# Altium footprint library 687 1xx 182 122.PcbLib: 13 footprints
Each footprint in its own frame and in the unit in brackets; x right, y up, seen from the top. Pads: shape width x height; smd on the part's side, far side on the other; paste and mask are expansions set on the pad; w line width, h text height; cw(c..) or ccw(c..) is an arc to the next point about the centre after c.
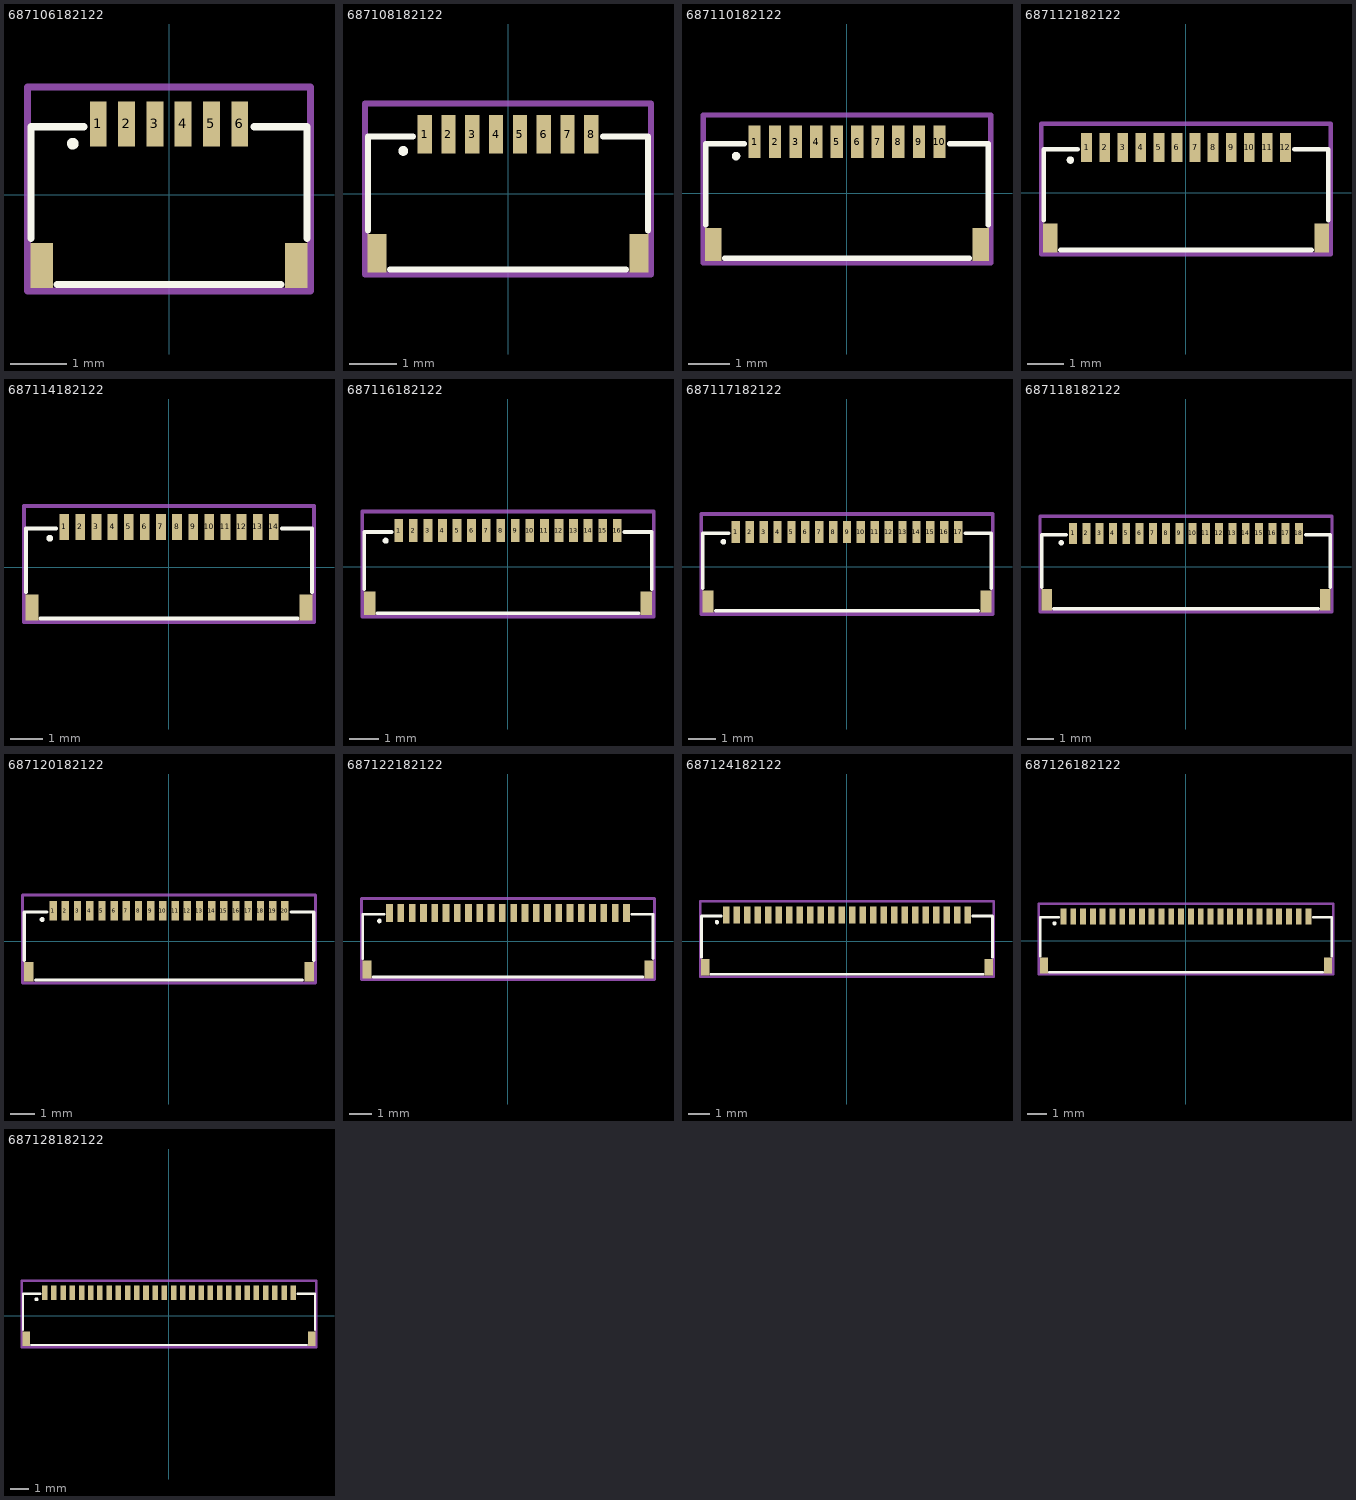
[diagram p0: the footprints below, top view; thin cyan lines are the x and y axes]

## 687106182122 [mm] "6 pins"
height 1.76
pads (8):
  rect 0.3x0.8 smd: 1(-1.25,1.25) 2(-0.75,1.25) 3(-0.25,1.25) 4(0.25,1.25) 5(0.75,1.25) 6(1.25,1.25)
  rect 0.4x0.8 smd: ""(-2.25,-1.25) ""(2.25,-1.25)
Top Overlay:
  circle w0.125: c-1.7,0.9 r0.04
  lines w0.127: -2.437,-0.77 -2.437,1.2 -1.5,1.2 ; -1.98,-1.586 1.98,-1.586 ; 1.5,1.2 2.437,1.2 2.437,-0.77
Mechanical 15:
  lines w0.127: -2.5,-1.7 -2.5,1.9 2.5,1.9 2.5,-1.7 -2.5,-1.7
3D body: height 0.98, standoff -0.01, extent -2.5,-1.65 2.5,1.95

## 687108182122 [mm] "8 pins"
height 1.76
pads (10):
  rect 0.3x0.8 smd: 1(-1.75,1.25) 2(-1.25,1.25) 3(-0.75,1.25) 4(-0.25,1.25) 5(0.25,1.25) 6(0.75,1.25) 7(1.25,1.25) 8(1.75,1.25)
  rect 0.4x0.8 smd: ""(-2.75,-1.25) ""(2.75,-1.25)
Top Overlay:
  circle w0.125: c-2.2,0.9 r0.04
  lines w0.127: -2.936,-0.77 -2.936,1.2 -2,1.2 ; -2.48,-1.586 2.48,-1.586 ; 2,1.2 2.936,1.2 2.936,-0.77
Mechanical 15:
  lines w0.127: -3,-1.7 3,-1.7 3,1.9 -3,1.9 -3,-1.7
3D body: height 0.98, standoff -0.01, extent -3,-1.65 3,1.85

## 687110182122 [mm] "10 pins"
height 1.76
pads (12):
  rect 0.3x0.8 smd: 1(-2.25,1.25) 2(-1.75,1.25) 3(-1.25,1.25) 4(-0.75,1.25) 5(-0.25,1.25) 6(0.25,1.25) 7(0.75,1.25) 8(1.25,1.25) 9(1.75,1.25) 10(2.25,1.25)
  rect 0.4x0.8 smd: ""(-3.25,-1.25) ""(3.25,-1.25)
Top Overlay:
  circle w0.125: c-2.7,0.9 r0.04
  lines w0.127: -3.436,-0.77 -3.436,1.2 -2.5,1.2 ; -2.98,-1.586 2.98,-1.586 ; 2.5,1.2 3.436,1.2 3.436,-0.77
Mechanical 15:
  lines w0.127: -3.5,-1.7 3.5,-1.7 3.5,1.9 -3.5,1.9 -3.5,-1.7
3D body: height 0.98, standoff -0.01, extent -3.5,-1.65 3.5,1.85

## 687112182122 [mm] "12 pins"
height 1.76
pads (14):
  rect 0.3x0.8 smd: 1(-2.75,1.25) 2(-2.25,1.25) 3(-1.75,1.25) 4(-1.25,1.25) 5(-0.75,1.25) 6(-0.25,1.25) 7(0.25,1.25) 8(0.75,1.25) 9(1.25,1.25) 10(1.75,1.25) 11(2.25,1.25) 12(2.75,1.25)
  rect 0.4x0.8 smd: ""(-3.75,-1.25) ""(3.75,-1.25)
Top Overlay:
  circle w0.125: c-3.2,0.9 r0.04
  lines w0.127: -3.936,-0.77 -3.936,1.2 -3,1.2 ; -3.48,-1.586 3.48,-1.586 ; 3,1.2 3.936,1.2 3.936,-0.77
Mechanical 15:
  lines w0.127: -4,-1.7 4,-1.7 4,1.9 -4,1.9 -4,-1.7
3D body: height 0.98, standoff -0.01, extent -4,-1.65 4,1.85

## 687114182122 [mm] "14 pins"
height 1.76
pads (16):
  rect 0.3x0.8 smd: 1(-3.25,1.25) 2(-2.75,1.25) 3(-2.25,1.25) 4(-1.75,1.25) 5(-1.25,1.25) 6(-0.75,1.25) 7(-0.25,1.25) 8(0.25,1.25) 9(0.75,1.25) 10(1.25,1.25) 11(1.75,1.25) 12(2.25,1.25) 13(2.75,1.25) 14(3.25,1.25)
  rect 0.4x0.8 smd: ""(-4.25,-1.25) ""(4.25,-1.25)
Top Overlay:
  circle w0.125: c-3.7,0.9 r0.04
  lines w0.127: -4.436,-0.77 -4.436,1.2 -3.5,1.2 ; -3.98,-1.586 3.98,-1.586 ; 3.5,1.2 4.436,1.2 4.436,-0.77
Mechanical 15:
  lines w0.127: -4.5,-1.7 -4.5,1.9 4.5,1.9 4.5,-1.7 -4.5,-1.7
3D body: height 0.98, standoff -0.01, extent -4.5,-1.65 4.5,1.85

## 687116182122 [mm] "16 pins"
height 1.76
pads (18):
  rect 0.3x0.8 smd: 1(-3.75,1.25) 2(-3.25,1.25) 3(-2.75,1.25) 4(-2.25,1.25) 5(-1.75,1.25) 6(-1.25,1.25) 7(-0.75,1.25) 8(-0.25,1.25) 9(0.25,1.25) 10(0.75,1.25) 11(1.25,1.25) 12(1.75,1.25) 13(2.25,1.25) 14(2.75,1.25) 15(3.25,1.25) 16(3.75,1.25)
  rect 0.4x0.8 smd: ""(-4.75,-1.25) ""(4.75,-1.25)
Top Overlay:
  circle w0.125: c-4.2,0.9 r0.04
  lines w0.127: -4.936,-0.77 -4.936,1.2 -4,1.2 ; -4.48,-1.586 4.48,-1.586 ; 4,1.2 4.936,1.2 4.936,-0.77
Mechanical 15:
  lines w0.127: -5,-1.7 -5,1.9 5,1.9 5,-1.7 -5,-1.7
3D body: height 0.98, standoff -0.01, extent -5,-1.65 5,1.85

## 687117182122 [mm] "17 pins"
height 1.76
pads (19):
  rect 0.3x0.8 smd: 1(-4,1.25) 2(-3.5,1.25) 3(-3,1.25) 4(-2.5,1.25) 5(-2,1.25) 6(-1.5,1.25) 7(-1,1.25) 8(-0.5,1.25) 9(0,1.25) 10(0.5,1.25) 11(1,1.25) 12(1.5,1.25) 13(2,1.25) 14(2.5,1.25) 15(3,1.25) 16(3.5,1.25) 17(4,1.25)
  rect 0.4x0.8 smd: ""(-5,-1.25) ""(5,-1.25)
Top Overlay:
  circle w0.125: c-4.45,0.9 r0.04
  lines w0.127: -5.186,-0.77 -5.186,1.2 -4.25,1.2 ; -4.73,-1.586 4.73,-1.586 ; 4.25,1.2 5.186,1.2 5.186,-0.77
Mechanical 15:
  lines w0.127: -5.25,-1.7 -5.25,1.9 5.25,1.9 5.25,-1.7 -5.25,-1.7
3D body: height 0.98, standoff -0.01, extent -5.25,-1.65 5.25,1.85

## 687118182122 [mm] "18 pins"
height 1.76
pads (20):
  rect 0.3x0.8 smd: 1(-4.25,1.25) 2(-3.75,1.25) 3(-3.25,1.25) 4(-2.75,1.25) 5(-2.25,1.25) 6(-1.75,1.25) 7(-1.25,1.25) 8(-0.75,1.25) 9(-0.25,1.25) 10(0.25,1.25) 11(0.75,1.25) 12(1.25,1.25) 13(1.75,1.25) 14(2.25,1.25) 15(2.75,1.25) 16(3.25,1.25) 17(3.75,1.25) 18(4.25,1.25)
  rect 0.4x0.8 smd: ""(-5.25,-1.25) ""(5.25,-1.25)
Top Overlay:
  circle w0.125: c-4.7,0.9 r0.04
  lines w0.127: -5.436,-0.77 -5.436,1.2 -4.5,1.2 ; -4.98,-1.586 4.98,-1.586 ; 4.5,1.2 5.436,1.2 5.436,-0.77
Mechanical 15:
  lines w0.127: -5.5,-1.7 -5.5,1.9 5.5,1.9 5.5,-1.7 -5.5,-1.7
3D body: height 0.98, standoff -0.01, extent -5.5,-1.65 5.5,1.85

## 687120182122 [mm] "20 pins"
height 1.76
pads (22):
  rect 0.3x0.8 smd: 1(-4.75,1.25) 2(-4.25,1.25) 3(-3.75,1.25) 4(-3.25,1.25) 5(-2.75,1.25) 6(-2.25,1.25) 7(-1.75,1.25) 8(-1.25,1.25) 9(-0.75,1.25) 10(-0.25,1.25) 11(0.25,1.25) 12(0.75,1.25) 13(1.25,1.25) 14(1.75,1.25) 15(2.25,1.25) 16(2.75,1.25) 17(3.25,1.25) 18(3.75,1.25) 19(4.25,1.25) 20(4.75,1.25)
  rect 0.4x0.8 smd: ""(-5.75,-1.25) ""(5.75,-1.25)
Top Overlay:
  circle w0.125: c-5.2,0.9 r0.04
  lines w0.127: -5.936,-0.77 -5.936,1.2 -5,1.2 ; -5.48,-1.586 5.48,-1.586 ; 5,1.2 5.936,1.2 5.936,-0.77
Mechanical 15:
  lines w0.127: -6,-1.7 6,-1.7 6,1.9 -6,1.9 -6,-1.7
3D body: height 0.98, standoff -0.01, extent -6,-1.65 6,1.85

## 687122182122 [mm] "22 pins"
height 1.76
pads (24):
  rect 0.3x0.8 smd: 1(-5.25,1.25) 2(-4.75,1.25) 3(-4.25,1.25) 4(-3.75,1.25) 5(-3.25,1.25) 6(-2.75,1.25) 7(-2.25,1.25) 8(-1.75,1.25) 9(-1.25,1.25) 10(-0.75,1.25) 11(-0.25,1.25) 12(0.25,1.25) 13(0.75,1.25) 14(1.25,1.25) 15(1.75,1.25) 16(2.25,1.25) 17(2.75,1.25) 18(3.25,1.25) 19(3.75,1.25) 20(4.25,1.25) 21(4.75,1.25) 22(5.25,1.25)
  rect 0.4x0.8 smd: ""(-6.25,-1.25) ""(6.25,-1.25)
Top Overlay:
  circle w0.125: c-5.7,0.9 r0.04
  lines w0.127: -6.436,-0.77 -6.436,1.2 -5.5,1.2 ; -5.98,-1.586 5.98,-1.586 ; 5.5,1.2 6.436,1.2 6.436,-0.77
Mechanical 15:
  lines w0.127: -6.5,-1.7 -6.5,1.9 6.5,1.9 6.5,-1.7 -6.5,-1.7
3D body: height 0.98, standoff -0.01, extent -6.5,-1.65 6.5,1.85

## 687124182122 [mm] "24 pins"
height 1.76
pads (26):
  rect 0.3x0.8 smd: 1(-5.75,1.25) 2(-5.25,1.25) 3(-4.75,1.25) 4(-4.25,1.25) 5(-3.75,1.25) 6(-3.25,1.25) 7(-2.75,1.25) 8(-2.25,1.25) 9(-1.75,1.25) 10(-1.25,1.25) 11(-0.75,1.25) 12(-0.25,1.25) 13(0.25,1.25) 14(0.75,1.25) 15(1.25,1.25) 16(1.75,1.25) 17(2.25,1.25) 18(2.75,1.25) 19(3.25,1.25) 20(3.75,1.25) 21(4.25,1.25) 22(4.75,1.25) 23(5.25,1.25) 24(5.75,1.25)
  rect 0.4x0.8 smd: ""(-6.75,-1.25) ""(6.75,-1.25)
Top Overlay:
  circle w0.125: c-6.2,0.9 r0.04
  lines w0.127: -6.936,-0.77 -6.936,1.2 -6,1.2 ; -6.48,-1.586 6.48,-1.586 ; 6,1.2 6.936,1.2 6.936,-0.77
Mechanical 15:
  lines w0.127: -7,-1.7 -7,1.9 7,1.9 7,-1.7 -7,-1.7
3D body: height 0.98, standoff -0.01, extent -7,-1.65 7,1.85

## 687126182122 [mm] "26 pins"
height 1.76
pads (28):
  rect 0.3x0.8 smd: 1(-6.25,1.25) 2(-5.75,1.25) 3(-5.25,1.25) 4(-4.75,1.25) 5(-4.25,1.25) 6(-3.75,1.25) 7(-3.25,1.25) 8(-2.75,1.25) 9(-2.25,1.25) 10(-1.75,1.25) 11(-1.25,1.25) 12(-0.75,1.25) 13(-0.25,1.25) 14(0.25,1.25) 15(0.75,1.25) 16(1.25,1.25) 17(1.75,1.25) 18(2.25,1.25) 19(2.75,1.25) 20(3.25,1.25) 21(3.75,1.25) 22(4.25,1.25) 23(4.75,1.25) 24(5.25,1.25) 25(5.75,1.25) 26(6.25,1.25)
  rect 0.4x0.8 smd: ""(-7.25,-1.25) ""(7.25,-1.25)
Top Overlay:
  circle w0.125: c-6.7,0.9 r0.04
  lines w0.127: -7.436,-0.77 -7.436,1.2 -6.5,1.2 ; -6.98,-1.586 6.98,-1.586 ; 6.5,1.2 7.436,1.2 7.436,-0.77
Mechanical 15:
  lines w0.127: -7.5,-1.7 -7.5,1.9 7.5,1.9 7.5,-1.7 -7.5,-1.7
3D body: height 0.98, standoff -0.01, extent -7.5,-1.65 7.5,1.85

## 687128182122 [mm] "28 pins"
height 1.76
pads (30):
  rect 0.3x0.8 smd: 1(-6.75,1.25) 2(-6.25,1.25) 3(-5.75,1.25) 4(-5.25,1.25) 5(-4.75,1.25) 6(-4.25,1.25) 7(-3.75,1.25) 8(-3.25,1.25) 9(-2.75,1.25) 10(-2.25,1.25) 11(-1.75,1.25) 12(-1.25,1.25) 13(-0.75,1.25) 14(-0.25,1.25) 15(0.25,1.25) 16(0.75,1.25) 17(1.25,1.25) 18(1.75,1.25) 19(2.25,1.25) 20(2.75,1.25) 21(3.25,1.25) 22(3.75,1.25) 23(4.25,1.25) 24(4.75,1.25) 25(5.25,1.25) 26(5.75,1.25) 27(6.25,1.25) 28(6.75,1.25)
  rect 0.4x0.8 smd: ""(-7.75,-1.25) ""(7.75,-1.25)
Top Overlay:
  circle w0.125: c-7.2,0.9 r0.04
  lines w0.127: -7.936,-0.77 -7.936,1.2 -7,1.2 ; -7.48,-1.586 7.48,-1.586 ; 7,1.2 7.936,1.2 7.936,-0.77
Mechanical 15:
  lines w0.127: -8,-1.7 -8,1.9 8,1.9 8,-1.7 -8,-1.7
3D body: height 0.98, standoff -0.01, extent -8,-1.65 8,1.85